# EAGLE library part OKI6295 (library A-14732-40023)
OKI MSM6295 4-channel mixing ADPCM voice synthesis LSI
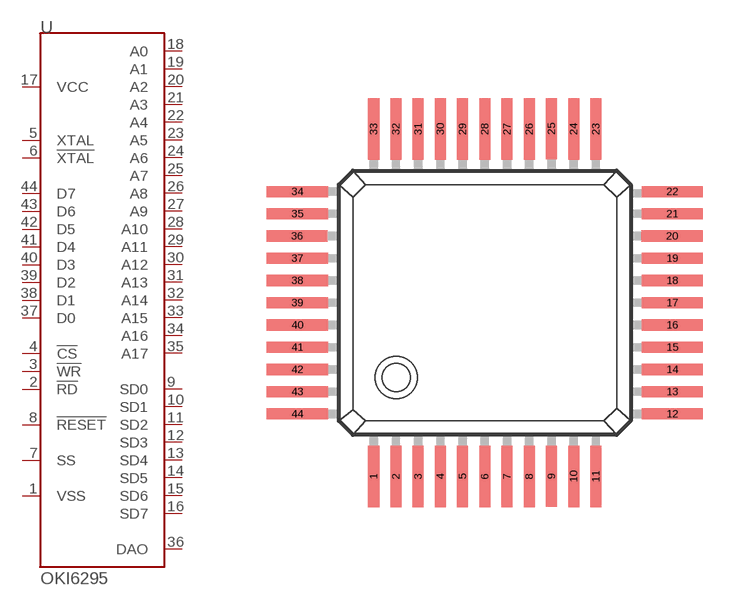
[diagram p6: symbol with the pads of QFP44; footprint QFP44]

Designator prefix U

## OKI6295  [QFP44]
1  VSS  pas
2  !RD  pas
3  !WR  pas
4  !CS  pas
5  XTAL  pas
6  !XTAL  pas
7  SS  pas
8  !RESET  pas
9  SD0  pas
10  SD1  pas
11  SD2  pas
12  SD3  pas
13  SD4  pas
14  SD5  pas
15  SD6  pas
16  SD7  pas
17  VCC  pas
18  A0  pas
19  A1  pas
20  A2  pas
21  A3  pas
22  A4  pas
23  A5  pas
24  A6  pas
25  A7  pas
26  A8  pas
27  A9  pas
28  A10  pas
29  A11  pas
30  A12  pas
31  A13  pas
32  A14  pas
33  A15  pas
34  A16  pas
35  A17  pas
36  DAO  pas
37  D0  pas
38  D1  pas
39  D2  pas
40  D3  pas
41  D4  pas
42  D5  pas
43  D6  pas
44  D7  pas

## Footprint QFP44 (pad centres in mm)
Quad Flat Package 44 pin
smd 0.4 x 2.2: 1 -4,-6.25; 2 -3.2,-6.25; 3 -2.4,-6.25; 4 -1.6,-6.25; 5 -0.8,-6.25; 6 0,-6.25; 7 0.8,-6.25; 8 1.6,-6.25; 9 2.4,-6.24; 10 3.2,-6.25; 11 4,-6.25; 23 4,6.25; 24 3.2,6.25; 25 2.4,6.26; 26 1.6,6.25; 27 0.8,6.25; 28 0,6.25; 29 -0.8,6.25; 30 -1.6,6.25; 31 -2.4,6.25; 32 -3.2,6.25; 33 -4,6.25
smd 2.2 x 0.4: 12 6.75,-4; 13 6.75,-3.2; 14 6.75,-2.4; 15 6.75,-1.6; 16 6.75,-0.8; 17 6.75,0; 18 6.75,0.8; 19 6.75,1.6; 20 6.74,2.4; 21 6.75,3.2; 22 6.75,4; 34 -6.75,4; 35 -6.75,3.2; 36 -6.76,2.4; 37 -6.75,1.6; 38 -6.75,0.8; 39 -6.75,0; 40 -6.75,-0.8; 41 -6.75,-1.6; 42 -6.75,-2.4; 43 -6.75,-3.2; 44 -6.75,-4